# EAGLE library part WS2811 (library X893)
http://www.nooelec.com/files/WS2811.pdf
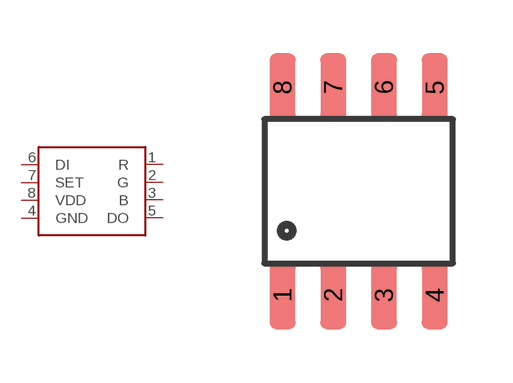
[diagram p177: symbol with the pads of SO08; footprint SO08]

Designator prefix U

## WS2811  [SO08]
1  R
2  G
3  B
4  GND
5  DO
6  DI
7  SET
8  VDD

## Footprint SO08 (pad centres in mm)
Small Outline Package Fits JEDEC packages (narrow SOIC-8)
smd 0.65 x 1.7: 1 -1.905,-2.6; 2 -0.635,-2.6; 3 0.635,-2.6; 4 1.905,-2.6; 5 1.905,2.6; 6 0.635,2.6; 7 -0.635,2.6; 8 -1.905,2.6